# Altium footprint library STL6P3LLH6.PcbLib: 2 footprints
Each footprint in its own frame and in the unit in brackets; x right, y up, seen from the top. Pads: shape width x height; smd on the part's side, far side on the other; paste and mask are expansions set on the pad; w line width, h text height; cw(c..) or ccw(c..) is an arc to the next point about the centre after c.
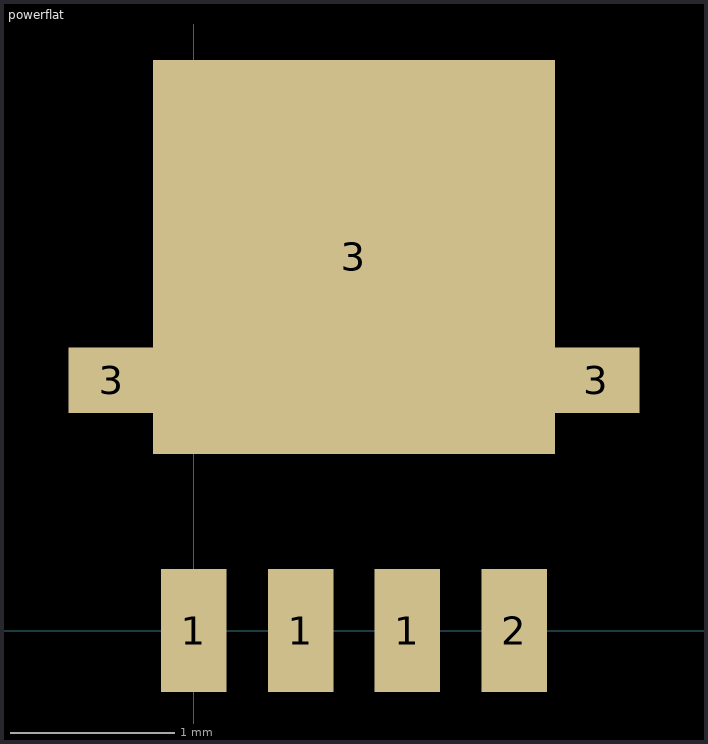
[diagram p0: the footprints below, top view; thin cyan lines are the x and y axes]

## PCBComponent_1 [mm]

## powerflat [mm]
pads (7):
  rect 0.4x0.75 smd: 1(0,0) 1(0.65,0) 1(1.3,0) 2(1.95,0)
  rect 0.53x0.4 smd: 3(-0.5,1.525) 3(2.45,1.525)
  rect 2.45x2.4 smd: 3(0.975,2.275)